# EAGLE library part ADP1864 (library analog-devices)
BUCK REGULATOR CONTROLER
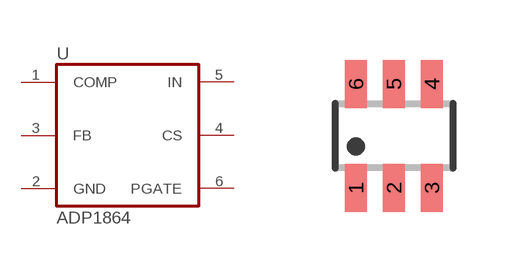
[diagram p74: symbol with the pads of SOT23-6; footprint SOT23-6]

Designator prefix U

## ADP1864  [SOT23-6]
1  COMP  in
2  GND  in
3  FB  in
4  CS
5  IN
6  PGATE  out

## Footprint SOT23-6 (pad centres in mm)
SOT-23 - DBV 0.95 mm pitch
smd 0.55 x 1.2: 1 -0.95,-1.3; 2 0,-1.3; 3 0.95,-1.3; 4 0.95,1.3; 5 0,1.3; 6 -0.95,1.3